# Altium footprint library LQM21FN100M80L.PcbLib: 3 footprints
Each footprint in its own frame and in the unit in brackets; x right, y up, seen from the top. Pads: shape width x height; smd on the part's side, far side on the other; paste and mask are expansions set on the pad; w line width, h text height; cw(c..) or ccw(c..) is an arc to the next point about the centre after c.
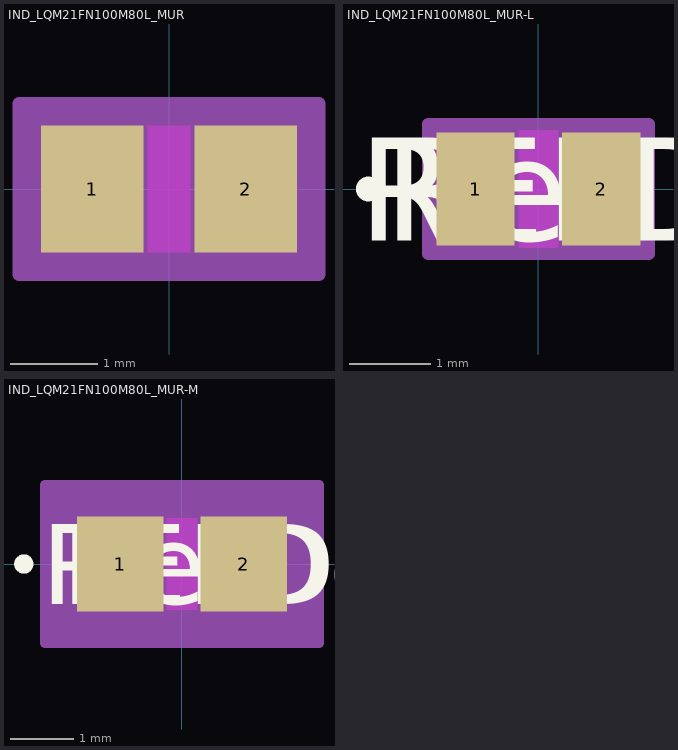
[diagram p0: the footprints below, top view; thin cyan lines are the x and y axes]

## IND_LQM21FN100M80L_MUR [mil]
pads (2):
  rect 46x57 smd paste+0 mask+0: 1(-34.5,0) 2(34.5,0)
Top Layer keep-out:
  region: -9.5,-26.5 -9.5,26.5 9.5,26.5 9.5,-26.5
Keep-Out Layer:
  region: -9.5,-28.5 -9.5,28.5 9.5,28.5 9.5,-28.5
Mechanical 13:
  lines w1: -43.5,-28.5 -43.5,28.5 ; -43.5,-28.5 43.5,-28.5 ; -43.5,-28.5 -11.5,-28.5 -11.5,28.5 -43.5,28.5 ; -43.5,-28.5 -43.5,28.5 ; -43.5,28.5 43.5,28.5 ; 43.5,-28.5 43.5,28.5 ; 43.5,-28.5 43.5,28.5 ; 43.5,-28.5 11.5,-28.5 11.5,28.5 43.5,28.5
Mechanical 15:
  region: 67.5,-38.5 -67.5,-38.5 -67.5,38.5 67.5,38.5
  lines w6: -67.5,-38.5 67.5,-38.5 67.5,38.5 -67.5,38.5 -67.5,-38.5
3D body "IND_LQM21FN100M80L_MUR.step": height 57.01, standoff 0, extent -43.5,-28.5 43.5,28.5

## IND_LQM21FN100M80L_MUR-L [mil]
pads (2):
  rect 38x55 smd paste+0 mask+0: 1(-30.5,0) 2(30.5,0)
Top Layer keep-out:
  region: -9.5,-26.5 -9.5,26.5 9.5,26.5 9.5,-26.5
Top Overlay:
  circle w6: c-82.5,0 r3
  text "RefDes" at -75,-25 h50
  text "REFDES" at -87.5,-25 h50
Keep-Out Layer:
  region: -9.5,-28.5 -9.5,28.5 9.5,28.5 9.5,-28.5
Mechanical 13:
  circle w0: c-25.5,0 r3
  lines w1: -43.5,-28.5 -43.5,28.5 ; -43.5,-28.5 -11.5,-28.5 -11.5,28.5 -43.5,28.5 ; -43.5,-28.5 43.5,-28.5 ; -43.5,-28.5 -43.5,28.5 ; -43.5,28.5 43.5,28.5 ; 43.5,-28.5 11.5,-28.5 11.5,28.5 43.5,28.5 ; 43.5,-28.5 43.5,28.5 ; 43.5,-28.5 43.5,28.5
  text "RefDes2" at -87.5,-25 h50
Mechanical 15:
  region: 53.5,-31.5 -53.5,-31.5 -53.5,31.5 53.5,31.5
  lines w6: -53.5,-31.5 -53.5,31.5 53.5,31.5 53.5,-31.5 -53.5,-31.5
3D body "IND_LQM21FN100M80L_MUR.step": height 57.01, standoff 0, extent -43.5,-28.5 43.5,28.5

## IND_LQM21FN100M80L_MUR-M [mil]
pads (2):
  rect 54x59 smd paste+0 mask+0: 1(-38.5,0) 2(38.5,0)
Top Layer keep-out:
  region: -9.5,-26.5 -9.5,26.5 9.5,26.5 9.5,-26.5
Top Overlay:
  circle w6: c-98.5,0 r3
  text "RefDes" at -75,-25 h50
  text "REFDES" at -87.5,-25 h50
Keep-Out Layer:
  region: -9.5,-28.5 -9.5,28.5 9.5,28.5 9.5,-28.5
Mechanical 13:
  circle w0: c-33.5,0 r3
  lines w1: -43.5,-28.5 -43.5,28.5 ; -43.5,-28.5 -11.5,-28.5 -11.5,28.5 -43.5,28.5 ; -43.5,-28.5 43.5,-28.5 ; -43.5,-28.5 -43.5,28.5 ; -43.5,28.5 43.5,28.5 ; 43.5,-28.5 11.5,-28.5 11.5,28.5 43.5,28.5 ; 43.5,-28.5 43.5,28.5 ; 43.5,-28.5 43.5,28.5
  text "RefDes2" at -87.5,-25 h50
Mechanical 15:
  region: 85.5,-49.5 -85.5,-49.5 -85.5,49.5 85.5,49.5
  lines w6: -85.5,-49.5 -85.5,49.5 85.5,49.5 85.5,-49.5 -85.5,-49.5
3D body "IND_LQM21FN100M80L_MUR.step": height 57.01, standoff 0, extent -43.5,-28.5 43.5,28.5